# Altium footprint library Lib Marius.PcbLib: 393 footprints (part 25 of 25)
Each footprint in its own frame and in the unit in brackets; x right, y up, seen from the top. Pads: shape width x height; smd on the part's side, far side on the other; paste and mask are expansions set on the pad; w line width, h text height; cw(c..) or ccw(c..) is an arc to the next point about the centre after c.
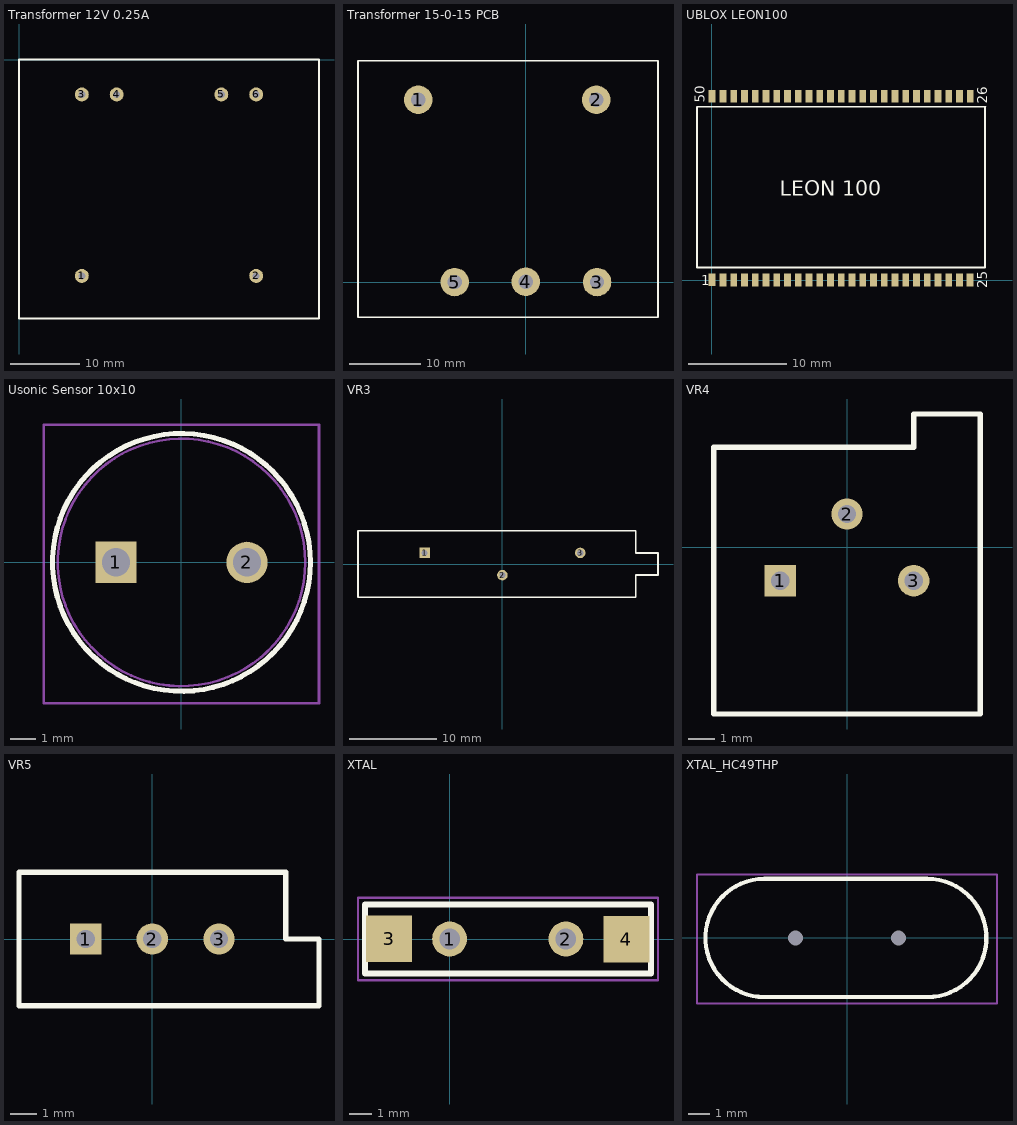
[diagram p24: the footprints below, top view; thin cyan lines are the x and y axes]

## Transformer 12V 0.25A [mm] "Mantech 14k10424"
height 30
pads (6):
  round 2 hole 1: 1(9,-31) 2(34,-31) 3(9,-5) 4(14,-5) 5(29,-5) 6(34,-5)
Top Overlay:
  lines w0.254: 0,-37.1 0,0 5,0 43,0 43,-37.1 0,-37.1
3D body: height 30, standoff 0, extent 0,-37 43,0

## Transformer 15-0-15 PCB [mm] "Thru-Hole; 3 Leads"
height 30
pads (5):
  round 4 hole 2: 1(-15.1,25.6) 2(9.9,25.6) 3(10,0) 4(0,0.035) 5(-10,0)
Top Overlay:
  lines w0.254: -23.567,-4.952 18.554,-4.952 18.554,31.074 -17.567,31.074 -23.567,31.074 -23.567,-4.952
3D body: height 35, standoff 0, extent -23.6,-5 18.6,31

## UBLOX LEON100 [mm] "UBLOX GSM Module"
height 0.5
pads (50):
  rect 0.7x1.3 smd: 1(0.057,0.034) 2(1.168,0.027) 3(2.268,0.027) 4(3.368,0.027) 5(4.468,0.027) 6(5.568,0.027) 7(6.668,0.027) 8(7.768,0.027) 9(8.868,0.027) 10(9.968,0.027) 11(11.068,0.027) 12(12.168,0.027) 13(13.268,0.027) 14(14.368,0.027) 15(15.468,0.027) 16(16.568,0.027) 17(17.668,0.027) 18(18.768,0.027) 19(19.868,0.027) 20(20.968,0.027) 21(22.068,0.027) 22(23.168,0.027) 23(24.268,0.027) 24(25.368,0.027) 25(26.457,0.027) 26(26.468,18.827) 27(25.368,18.827) 28(24.268,18.827) 29(23.168,18.827) 30(22.068,18.827) 31(20.968,18.827) 32(19.868,18.827) 33(18.768,18.827) 34(17.668,18.827) 35(16.568,18.827) 36(15.468,18.827) 37(14.368,18.827) 38(13.268,18.827) 39(12.168,18.827) 40(11.068,18.827) 41(9.968,18.827) 42(8.868,18.827) 43(7.768,18.827) 44(6.668,18.827) 45(5.568,18.827) 46(4.468,18.827) 47(3.368,18.827) 48(2.268,18.827) 49(1.168,18.827) 50(0.057,18.834)
Top Overlay:
  lines w0.2: -1.487,1.287 28,1.294 28,17.74 ; -1.473,1.301 -1.473,17.746 28.014,17.754
  text "LEON 100" at 7.001,8.632 h1.52
  text "50" at -0.675,18.147 h1
  text "26" at 28.213,18.044 h1
  text "25" at 28.213,-0.813 h1
  text "1" at -1.054,-0.502 h1
3D body: height 0.8, standoff 0, extent -1.514,-0.159 28.029,18.905
3D body: height 2, standoff 0.8, extent -1.005,1.371 27.31,17.722

## Usonic Sensor 10x10 [mm] "Nippon Ceramic ATR40-10P ultrasonic transducer"
height 10
pads (2):
  rect 1.6x1.6 hole 1.1: 1(-2.54,0)
  round 1.6 hole 1.1: 2(2.54,0)
Top Overlay:
  circle w0.2: c0,0 r5
  text ".Designator" at -7.62,-7.239 h1.5
Mechanical 13:
  circle w0.1: c0,0 r4.8
  circle w0.1: c0,0 r5
Mechanical 15:
  lines w0.1: -5.334,-5.461 -5.334,5.334 5.334,5.334 5.334,-5.461 -5.334,-5.461
3D body: height 10.5, standoff 0, extent -4.592,-4.591 4.572,4.591
3D body: height 10, standoff 0, extent -4.98,-5.08 4.98,4.9

## VR3 [mm] "Thru-Hole; 3 Leads"
pads (3):
  rect 1.2x1.2 hole 0.7: 1(-8.89,1.27)
  round 1.2 hole 0.7: 2(0,-1.27) 3(8.89,1.27)
Top Overlay:
  lines w0.2: -16.51,-3.81 -16.51,3.81 15.24,3.81 15.24,1.27 17.78,1.27 17.78,-1.27 15.24,-1.27 15.24,-3.81 -16.51,-3.81

## VR4 [mm] "Thru-Hole; 3 Leads"
pads (3):
  rect 1.2x1.2 hole 0.7: 1(-2.54,-1.27)
  round 1.2 hole 0.7: 2(0,1.27) 3(2.54,-1.27)
Top Overlay:
  lines w0.2: -5.08,-6.35 5.08,-6.35 5.08,5.08 2.54,5.08 2.54,3.81 -5.08,3.81 -5.08,-6.35

## VR5 [mm] "Thru-Hole; 3 Leads"
pads (3):
  rect 1.2x1.2 hole 0.7: 1(-2.54,0)
  round 1.2 hole 0.7: 2(0,0) 3(2.54,0)
Top Overlay:
  lines w0.2: -5.08,-2.54 6.35,-2.54 6.35,0 5.08,0 5.08,2.54 -5.08,2.54 -5.08,-2.54

## XTAL [mil] "Crystal, HC49, SMD & PTH Dual footprint"
pads (4):
  round 60 hole 35.43: 1(0,0) 2(200,0)
  rect 78.74x80 smd: 3(-104.09,0.1) 4(303.95,-0.22)
Top Overlay:
  lines w10: -145.67,-59.06 -145.67,-21.83 -145.67,59.06 346.46,59.06 346.46,-59.06 -84.06,-59.06 -145.67,-59.06
Mechanical 15:
  lines w3.94: -157.48,-70.87 358.27,-70.87 358.27,70.87 -157.48,70.87 -157.48,-70.87
3D body "SW3dPS-XTAL2 TH.step": height 121.8, standoff -100, extent -109.99,-60 310.01,60

## XTAL_HC49THP [mm] "HC49 SMD Crystal"
height 5
pads (2):
  round 0 / inner round 1.5 / far side round 1.5 hole 0.7: 1(-2.44,0) 2(2.44,0)
Top Overlay:
  lines w0.2: -3.9,-2.8 cw(c-3.9,0) -3.9,2.8 3.8,2.8 cw(c3.8,0) 3.8,-2.8 -3.9,-2.8
Mechanical 13:
  text ".Designator" at -2.3,-0.3 h0.8
Mechanical 15:
  lines w0.1: -7.1,-3.1 -7.1,3 7.1,3 7.1,-3.1 -7.1,-3.1
3D body: height 3, standoff 0.2, extent -6.043,-2.247 5.998,2.174
3D body: height 0.51, standoff 0, extent -6.591,-2.795 6.546,2.722